# Altium schematic symbol library Sch_NTC_SIT.SchLib: 2 symbols
Pins are listed as number, name and electrical type; pins without a type are passive.

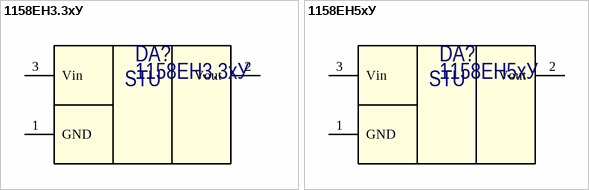
[diagram p0: symbols 1158ЕН3.3хУ to 1158ЕН5хУ]

## 1158ЕН3.3хУ
designator DA?
Трехвыводной стабилизатор напряжения / с низким проходным напряжением. Ток нагрузки: до 500 мА; Manufacturer: АО "НТЦ СИТ"; Part Number: 1158ЕН3.3хУ
footprint КТ93-1 (Footprint not found)
pins: 1 GND (power), 2 Vout (power), 3 Vin (power)
text: STU

## 1158ЕН5хУ
designator DA?
Трехвыводной стабилизатор напряжения / с низким проходным напряжением. Ток нагрузки: до 500 мА; Manufacturer: АО "НТЦ СИТ"; Part Number: 1158ЕН5хУ
footprint КТ93-1 (Footprint not found)
pins: 1 GND (power), 2 Vout (power), 3 Vin (power)
text: STU